# EAGLE library part ESP32-PICO-D4 (library Scott-MCU)
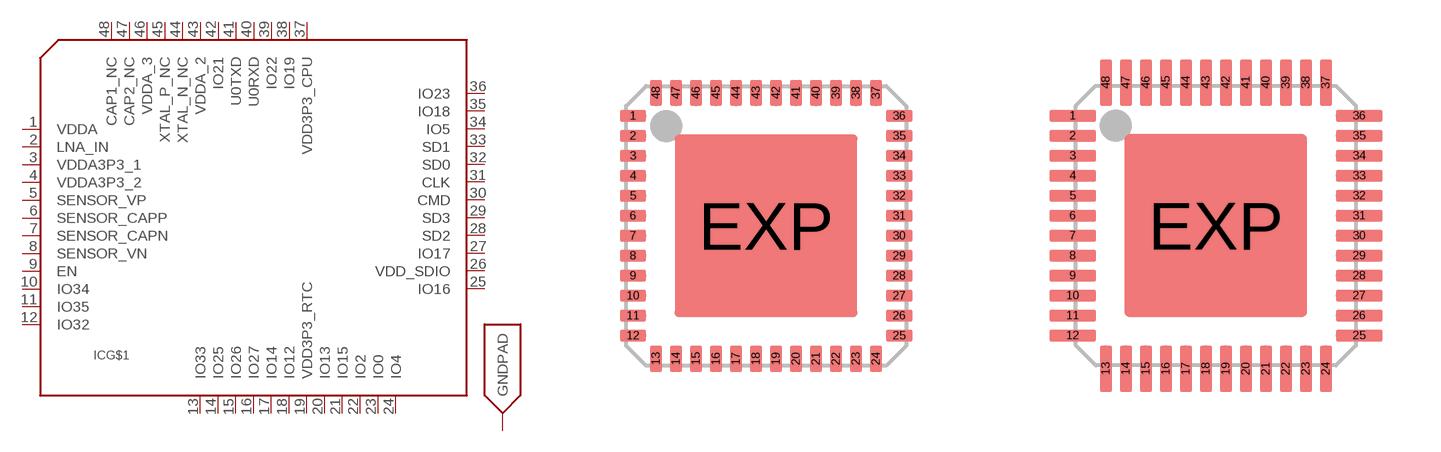
[diagram p4: symbol with the pads of PICO-D4-QFN48; footprints PICO-D4-QFN48, PICO-D4-QFN48-LONG]

Designator prefix IC; gates G$1=ESP32-PICO-D4 G$2=GNDPAD

## ESP32-PICO-D4  [PICO-D4-QFN48]
1  G$1:VDDA  in
2  G$1:LNA_IN
3  G$1:VDDA3P3_1  in
4  G$1:VDDA3P3_2  in
5  G$1:SENSOR_VP
6  G$1:SENSOR_CAPP
7  G$1:SENSOR_CAPN
8  G$1:SENSOR_VN
9  G$1:EN
10  G$1:IO34
11  G$1:IO35
12  G$1:IO32
13  G$1:IO33
14  G$1:IO25
15  G$1:IO26
16  G$1:IO27
17  G$1:IO14
18  G$1:IO12
19  G$1:VDD3P3_RTC  in
20  G$1:IO13
21  G$1:IO15
22  G$1:IO2
23  G$1:IO0
24  G$1:IO4
25  G$1:IO16
26  G$1:VDD_SDIO  out
27  G$1:IO17
28  G$1:SD2
29  G$1:SD3
30  G$1:CMD
31  G$1:CLK
32  G$1:SD0
33  G$1:SD1
34  G$1:IO5
35  G$1:IO18
36  G$1:IO23
37  G$1:VDD3P3_CPU  in
38  G$1:IO19
39  G$1:IO22
40  G$1:U0RXD
41  G$1:U0TXD
42  G$1:IO21
43  G$1:VDDA_2  in
44  G$1:XTAL_N_NC  nc
45  G$1:XTAL_P_NC  nc
46  G$1:VDDA_3  in
47  G$1:CAP2_NC  nc
48  G$1:CAP1_NC  nc
EXP  G$2:GNDPAD  pas

## ESP32-PICO-D4-LONG  [PICO-D4-QFN48-LONG]
Pads as for PICO-D4-QFN48

## Footprint PICO-D4-QFN48 (pad centres in mm)
48-pin QFN 7 x 7 mm LF48 48 Quad Flat Package No Leads Source: http://v4.cypress.com/cfuploads/img/products/cywusb6934.pdf
smd 0.66 x 0.3: 1 -3.327,2.75; 2 -3.327,2.25; 3 -3.327,1.75; 4 -3.327,1.25; 5 -3.327,0.75; 6 -3.327,0.25; 7 -3.327,-0.25; 8 -3.327,-0.75; 9 -3.327,-1.25; 10 -3.327,-1.75; 11 -3.327,-2.25; 12 -3.327,-2.75; 25 3.327,-2.75; 26 3.327,-2.25; 27 3.327,-1.75; 28 3.327,-1.25; 29 3.327,-0.75; 30 3.327,-0.25; 31 3.327,0.25; 32 3.327,0.75; 33 3.327,1.25; 34 3.327,1.75; 35 3.327,2.25; 36 3.327,2.75
smd 0.3 x 0.66: 13 -2.75,-3.327; 14 -2.25,-3.327; 15 -1.75,-3.327; 16 -1.25,-3.327; 17 -0.75,-3.327; 18 -0.25,-3.327; 19 0.25,-3.327; 20 0.75,-3.327; 21 1.25,-3.327; 22 1.75,-3.327; 23 2.25,-3.327; 24 2.75,-3.327; 37 2.75,3.327; 38 2.25,3.327; 39 1.75,3.327; 40 1.25,3.327; 41 0.75,3.327; 42 0.25,3.327; 43 -0.25,3.327; 44 -0.75,3.327; 45 -1.25,3.327; 46 -1.75,3.327; 47 -2.25,3.327; 48 -2.75,3.327
smd 4.572 x 4.572: EXP 0,0

## Footprint PICO-D4-QFN48-LONG (pad centres in mm)
48-pin QFN 7 x 7 mm LF48 48 Quad Flat Package No Leads Source: http://v4.cypress.com/cfuploads/img/products/cywusb6934.pdf
smd 1.168 x 0.3: 1 -3.581,2.75; 2 -3.581,2.25; 3 -3.581,1.75; 4 -3.581,1.25; 5 -3.581,0.75; 6 -3.581,0.25; 7 -3.581,-0.25; 8 -3.581,-0.75; 9 -3.581,-1.25; 10 -3.581,-1.75; 11 -3.581,-2.25; 12 -3.581,-2.75; 25 3.581,-2.75; 26 3.581,-2.25; 27 3.581,-1.75; 28 3.581,-1.25; 29 3.581,-0.75; 30 3.581,-0.25; 31 3.581,0.25; 32 3.581,0.75; 33 3.581,1.25; 34 3.581,1.75; 35 3.581,2.25; 36 3.581,2.75
smd 0.3 x 1.168: 13 -2.75,-3.581; 14 -2.25,-3.581; 15 -1.75,-3.581; 16 -1.25,-3.581; 17 -0.75,-3.581; 18 -0.25,-3.581; 19 0.25,-3.581; 20 0.75,-3.581; 21 1.25,-3.581; 22 1.75,-3.581; 23 2.25,-3.581; 24 2.75,-3.581; 37 2.75,3.581; 38 2.25,3.581; 39 1.75,3.581; 40 1.25,3.581; 41 0.75,3.581; 42 0.25,3.581; 43 -0.25,3.581; 44 -0.75,3.581; 45 -1.25,3.581; 46 -1.75,3.581; 47 -2.25,3.581; 48 -2.75,3.581
smd 4.572 x 4.572: EXP 0,0